# Altium footprint library switch_mx.PcbLib: 2 footprints
Each footprint in its own frame and in the unit in brackets; x right, y up, seen from the top. Pads: shape width x height; smd on the part's side, far side on the other; paste and mask are expansions set on the pad; w line width, h text height; cw(c..) or ccw(c..) is an arc to the next point about the centre after c.
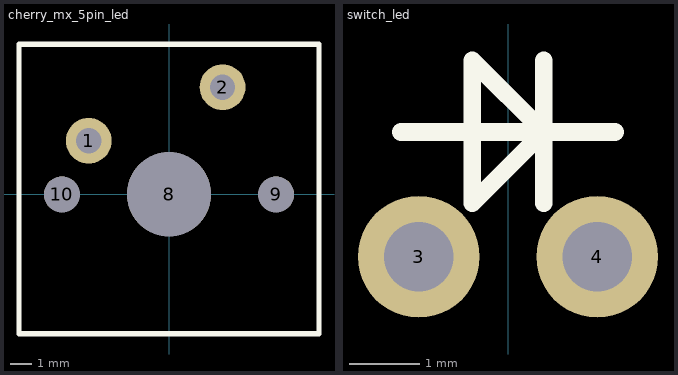
[diagram p0: the footprints below, top view; thin cyan lines are the x and y axes]

## cherry_mx_5pin_led [mil]
pads (5):
  round 85.44 hole 47.24: 1(-150,100) 2(100,200)
  round 157 hole 157.48 unplated: 8(0,0)
  round 67 hole 67 unplated: 9(200,0) 10(-200,0)
Top Overlay:
  lines w10: -280,-260 -280,280 280,280 280,-260 -280,-260

## switch_led [mil]
pads (2):
  round 68.18 / inner round 62.99 / far side round 62.99 hole 39: 3(-50,-200) 4(50,-200)
Top Overlay:
  lines w10: -60,-130 20,-130 ; 20,-170 20,-90 20,-130 ; 20,-130 -20,-90 -20,-170 20,-130 ; 20,-130 60,-130 20,-130